# Altium footprint library PcbLib1.PcbLib: 1 footprints
Each footprint in its own frame and in the unit in brackets; x right, y up, seen from the top. Pads: shape width x height; smd on the part's side, far side on the other; paste and mask are expansions set on the pad; w line width, h text height; cw(c..) or ccw(c..) is an arc to the next point about the centre after c.
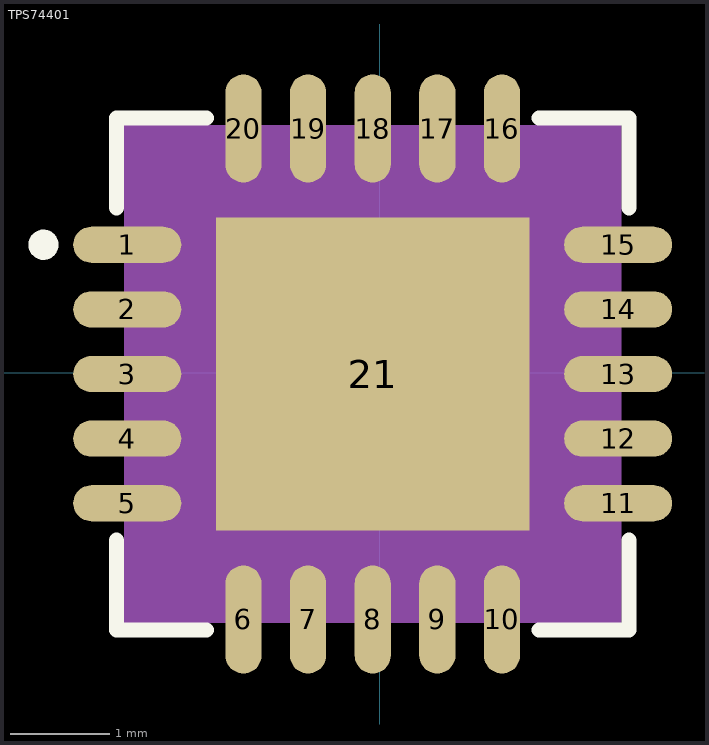
[diagram p0: the footprint, top view; thin cyan lines are the x and y axes]

## TPS74401 [mm]
pads (21):
  oval 1.087x0.364 smd: 1(-2.54,1.285) 2(-2.54,0.635) 3(-2.54,-0.015) 4(-2.54,-0.665) 5(-2.54,-1.315) 11(2.397,-1.315) 12(2.397,-0.665) 13(2.397,-0.015) 14(2.397,0.635) 15(2.397,1.285)
  oval 0.364x1.087 smd: 6(-1.371,-2.484) 7(-0.722,-2.484) 8(-0.072,-2.484) 9(0.579,-2.484) 10(1.228,-2.484) 16(1.228,2.453) 17(0.579,2.453) 18(-0.072,2.453) 19(-0.722,2.453) 20(-1.371,2.453)
  rect 3.15x3.15 smd: 21(-0.072,-0.015)
Top Overlay:
  circle w0.153: c-3.383,1.285 r0.076
  lines w0.152: -2.648,-1.687 -2.648,-2.591 -1.744,-2.591 ; -2.648,1.657 -2.648,2.561 -1.744,2.561 ; 1.601,-2.591 2.505,-2.591 2.505,-1.687 ; 1.601,2.561 2.505,2.561 2.505,1.657
Mechanical 4:
  region: -2.571,2.485 2.428,2.485 2.428,-2.515 -2.571,-2.515
Mechanical 5:
  region: -2.571,1.437 -2.022,1.437 -2.022,1.132 -2.571,1.132
  region: -2.571,0.787 -2.022,0.787 -2.022,0.482 -2.571,0.482
  region: -2.571,0.137 -2.022,0.137 -2.022,-0.168 -2.571,-0.168
  region: -2.571,-0.513 -2.022,-0.513 -2.022,-0.817 -2.571,-0.817
  region: -2.571,-1.163 -2.022,-1.163 -2.022,-1.468 -2.571,-1.468
  region: -1.524,-1.965 -1.219,-1.965 -1.219,-2.515 -1.524,-2.515
  region: -0.874,-1.965 -0.569,-1.965 -0.569,-2.515 -0.874,-2.515
  region: -0.224,-1.965 0.081,-1.965 0.081,-2.515 -0.224,-2.515
  region: 0.426,-1.965 0.731,-1.965 0.731,-2.515 0.426,-2.515
  region: 1.076,-1.965 1.381,-1.965 1.381,-2.515 1.076,-2.515
  region: 2.428,-1.163 1.879,-1.163 1.879,-1.468 2.428,-1.468
  region: 2.428,-0.513 1.879,-0.513 1.879,-0.817 2.428,-0.817
  region: 2.428,0.137 1.879,0.137 1.879,-0.168 2.428,-0.168
  region: 2.428,0.787 1.879,0.787 1.879,0.482 2.428,0.482
  region: 2.428,1.437 1.879,1.437 1.879,1.132 2.428,1.132
  region: 1.076,1.935 1.381,1.935 1.381,2.485 1.076,2.485
  region: 0.426,1.935 0.731,1.935 0.731,2.485 0.426,2.485
  region: -0.224,1.935 0.081,1.935 0.081,2.485 -0.224,2.485
  region: -0.874,1.935 -0.569,1.935 -0.569,2.485 -0.874,2.485
  region: -1.524,1.935 -1.219,1.935 -1.219,2.485 -1.524,2.485
  region: -1.331,1.56 1.504,1.56 1.504,-1.59 -1.647,-1.59 -1.647,1.245
Mechanical 6:
  circle w0.06: c-2.571,2.485 r0.03
Mechanical 15:
  circle w0.153: c-2.872,1.285 r0.076